# Altium footprint library MZ7XA_FUN20171227.PcbLib: 33 footprints (part 1 of 3)
Each footprint in its own frame and in the unit in brackets; x right, y up, seen from the top. Pads: shape width x height; smd on the part's side, far side on the other; paste and mask are expansions set on the pad; w line width, h text height; cw(c..) or ccw(c..) is an arc to the next point about the centre after c.
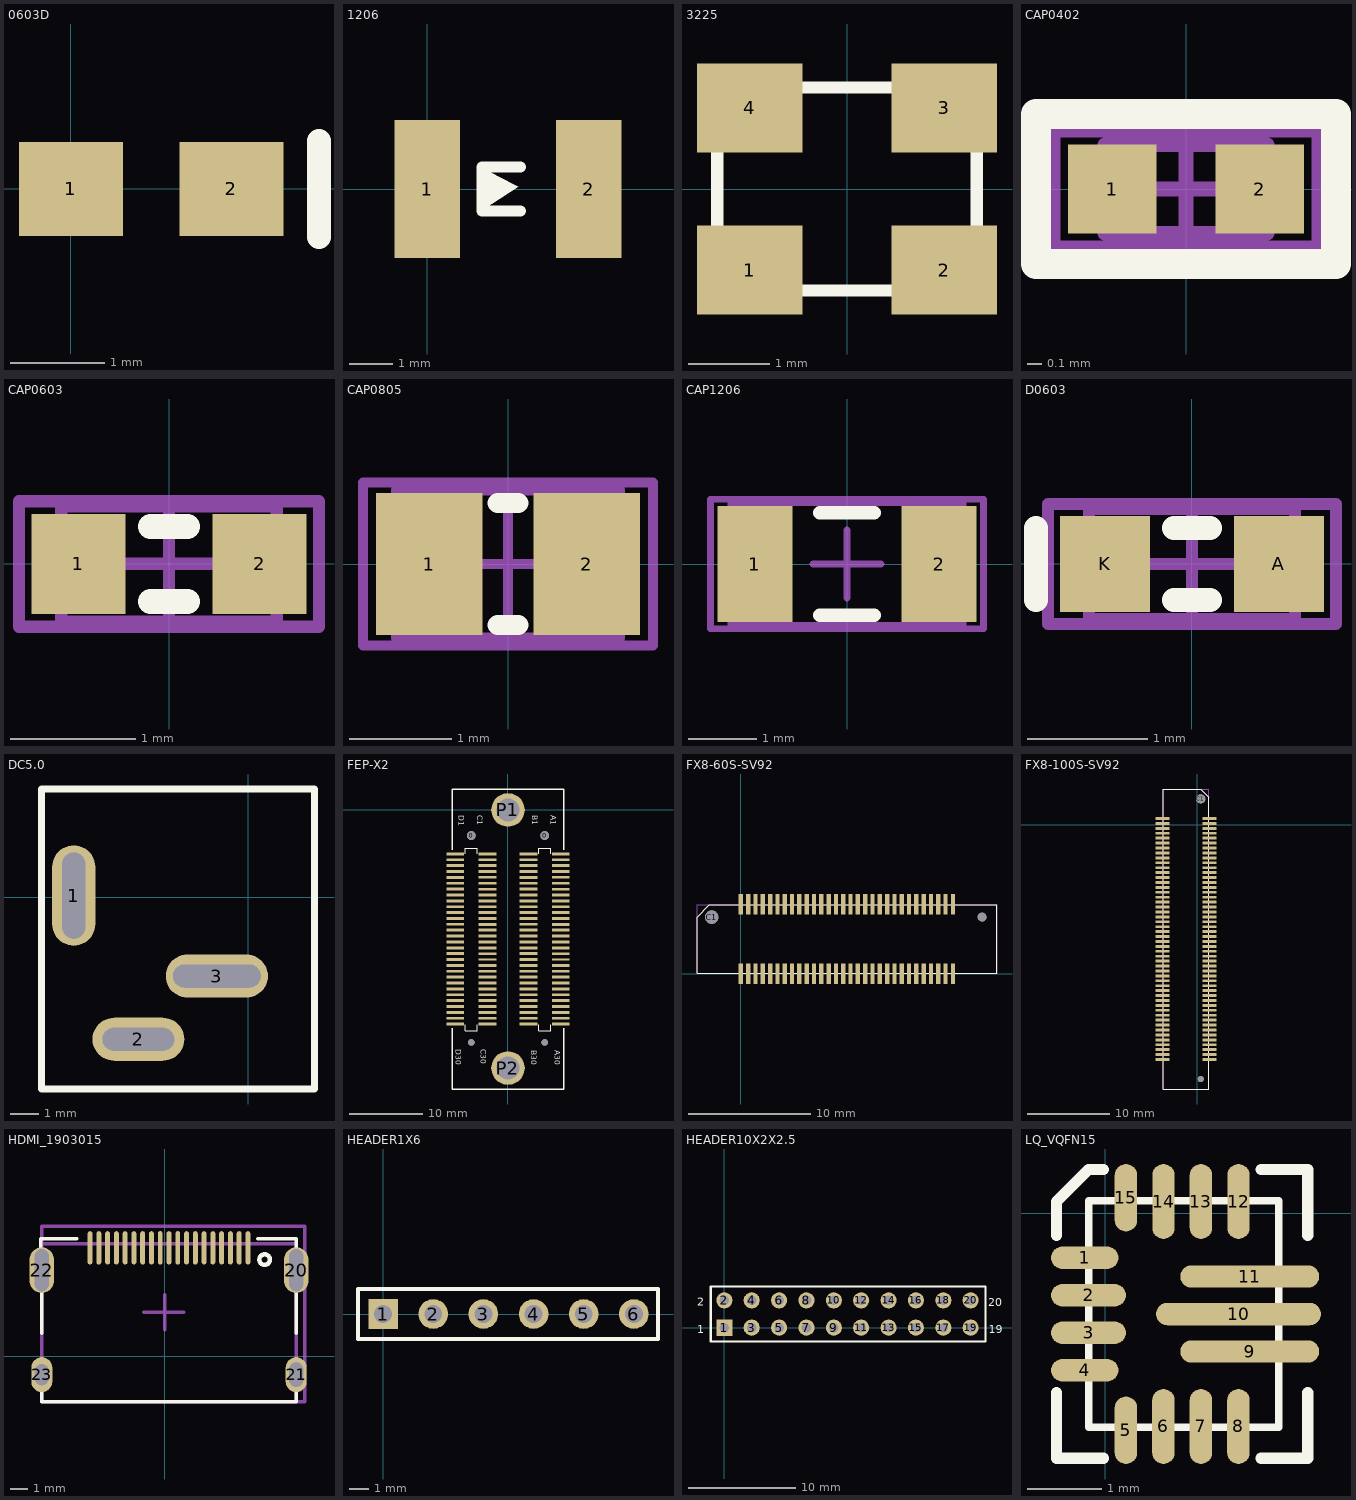
[diagram p0: the footprints below, top view; thin cyan lines are the x and y axes]

## 0603D [mm]
pads (2):
  rect 1.1x1 smd: 1(0,0) 2(1.7,0)
Top Overlay:
  lines w0.254: 2.628,-0.508 2.628,0.508
3D body: height 0.76, standoff 0, extent -0.635,-0.584 2.337,0.584

## 1206 [mil]
pads (2):
  rect 60x125.98 smd: 1(0,0) 2(147,0)
Top Overlay:
  region: 49,20 65,11 83,2 49,-20
  lines w10: 85,-20 50,-20 50,20 85,20
3D body: height 50, standoff 0, extent -23,-34 157,34
3D body: height 52, standoff 0, extent -34,-34 -23,34
3D body: height 52, standoff 0, extent 157,-34 168,34

## 3225 [mm]
pads (4):
  rect 1.3x1.1 smd: 1(-1.2,-1) 2(1.2,-1) 3(1.2,1) 4(-1.2,1)
Top Overlay:
  lines w0.15: -1.6,-1.25 -1.6,1.25 1.6,1.25 1.6,-1.25 -1.6,-1.25

## CAP0402 [mm]
pads (2):
  rect 0.6x0.6 smd: 1(-0.5,0) 2(0.5,0)
Top Overlay:
  lines w0.2: -1.016,-0.508 1.016,-0.508 1.016,0.508 -1.016,0.508 -1.016,-0.508
Mechanical 13:
  lines w0.1: -0.55,-0.3 0.55,-0.3 0.55,0.3 -0.55,0.3 -0.55,-0.3
Mechanical 15:
  lines w0.1: -0.3,0 0.3,0 ; 0,-0.3 0,0.3 ; -0.9,-0.4 0.9,-0.4 0.9,0.4 -0.9,0.4 -0.9,-0.4
3D body: height 0.6, standoff 0, extent -0.55,-0.3 0.55,0.3

## CAP0603 [mm]
pads (2):
  rect 0.75x0.8 smd: 1(-0.725,0) 2(0.725,0)
Top Overlay:
  lines w0.2: -0.15,-0.3 0.15,-0.3 ; -0.15,0.3 0.15,0.3
Mechanical 13:
  lines w0.1: -0.86,-0.46 -0.86,0.46 0.86,0.46 0.86,-0.46 -0.86,-0.46
Mechanical 15:
  lines w0.1: -0.46,0 0.46,0 ; 0,-0.46 0,0.46 ; -1.2,-0.5 -1.2,0.5 1.2,0.5 1.2,-0.5 -1.2,-0.5
3D body: height 0.92, standoff 0, extent -0.86,-0.46 0.86,0.46

## CAP0805 [mm]
pads (2):
  rect 1.05x1.4 smd: 1(-0.775,0) 2(0.775,0)
Top Overlay:
  lines w0.2: -0.1,-0.6 0.1,-0.6 ; -0.1,0.6 0.1,0.6
Mechanical 13:
  lines w0.1: -1.1,-0.725 1.1,-0.725 1.1,0.725 -1.1,0.725 -1.1,-0.725
Mechanical 15:
  lines w0.1: -0.5,0 0.5,0 ; 0,-0.5 0,0.5 ; -1.425,-0.8 1.425,-0.8 1.425,0.8 -1.425,0.8 -1.425,-0.8
3D body: height 1.45, standoff 0, extent -1.1,-0.725 1.1,0.725

## CAP1206 [mm]
pads (2):
  rect 1.1x1.7 smd: 1(-1.35,0) 2(1.35,0)
Top Overlay:
  lines w0.2: -0.4,-0.75 0.4,-0.75 ; -0.4,0.75 0.4,0.75
Mechanical 13:
  lines w0.1: -1.7,-0.9 -1.7,0.9 1.7,0.9 1.7,-0.9 -1.7,-0.9
Mechanical 15:
  lines w0.1: -0.5,0 0.5,0 ; 0,-0.5 0,0.5 ; -2,-0.95 -2,0.95 2,0.95 2,-0.95 -2,-0.95
3D body: height 1.3, standoff 0, extent -1.7,-0.9 1.7,0.9

## D0603 [mm]
pads (2):
  rect 0.75x0.8 smd: A(0.725,0) K(-0.725,0)
Top Overlay:
  lines w0.2: -0.15,-0.3 0.15,-0.3 ; -0.15,0.3 0.15,0.3
  lines w0.203: -1.3,-0.3 -1.3,0.3
Mechanical 13:
  lines w0.1: -0.86,-0.46 0.86,-0.46 0.86,0.46 -0.86,0.46 -0.86,-0.46
Mechanical 15:
  lines w0.1: -0.46,0 0.46,0 ; 0,-0.46 0,0.46 ; -1.2,-0.5 1.2,-0.5 1.2,0.5 -1.2,0.5 -1.2,-0.5
3D body: height 0.92, standoff 0, extent -0.86,-0.46 0.86,0.46

## DC5.0 [mm]
pads (3):
  oval 1.5x3.5 hole 0.8 slot 3 at 90 deg: 1(-6.071,0.051)
  oval 3.2x1.5 hole 0.8 slot 2.5 at 0 deg: 2(-3.821,-4.949)
  oval 3.556x1.5 hole 0.8 slot 3.048 at 0 deg: 3(-1.092,-2.749)
Top Overlay:
  lines w0.254: -7.193,-6.68 -7.193,3.759 2.306,3.759 2.306,-6.68 -7.193,-6.68

## FEP-X2 [mm]
pads (126):
  round 0.889 hole 0.889: 0(-5,-31.7) 0(5,-31.7)
  round 1.2 hole 1.2: 0(-5,-3.5) 0(5,-3.5)
  rect 2.4x0.4 smd: A1(7.2,-6) A2(7.2,-6.8) A3(7.2,-7.6) A4(7.2,-8.4) A8(7.2,-11.6) A9(7.2,-12.4) A10(7.2,-13.2) A11(7.2,-14) A12(7.2,-14.8) A13(7.2,-15.6) A14(7.2,-16.4) A15(7.2,-17.2) A16(7.2,-18) A17(7.2,-18.8) A20(7.2,-21.2) A21(7.2,-22) A22(7.2,-22.8) A23(7.2,-23.6) A24(7.2,-24.4) A25(7.2,-25.2) A26(7.2,-26) A27(7.2,-26.8) A28(7.2,-27.6) A29(7.2,-28.4) A30(7.2,-29.2) B1(2.8,-6) B2(2.8,-6.8) B3(2.8,-7.6) B4(2.8,-8.4) B5(2.8,-9.2) B6(2.8,-10) B7(2.8,-10.8) B8(2.8,-11.6) B9(2.8,-12.4) B10(2.8,-13.2) B11(2.8,-14) B12(2.8,-14.8) B14(2.8,-16.4) B15(2.8,-17.2) B16(2.8,-18) B17(2.8,-18.8) B18(2.8,-19.6) B19(2.8,-20.4) B20(2.8,-21.2) B21(2.8,-22) B22(2.8,-22.8) B23(2.8,-23.6) B24(2.8,-24.4) B25(2.8,-25.2) B26(2.8,-26) B27(2.8,-26.8) B28(2.8,-27.6) B29(2.8,-28.4) B30(2.8,-29.2) C1(-2.8,-6) C2(-2.8,-6.8) C3(-2.8,-7.6) C4(-2.8,-8.4) C8(-2.8,-11.6) C9(-2.8,-12.4) C10(-2.8,-13.2) C11(-2.8,-14) C12(-2.8,-14.8) C13(-2.8,-15.6) C14(-2.8,-16.4) C15(-2.8,-17.2) C16(-2.8,-18) C17(-2.8,-18.8) C20(-2.8,-21.2) C21(-2.8,-22) C22(-2.8,-22.8) C23(-2.8,-23.6) C24(-2.8,-24.4) C25(-2.8,-25.2) C26(-2.8,-26) C27(-2.8,-26.8) C28(-2.8,-27.6) C29(-2.8,-28.4) C30(-2.8,-29.2) D1(-7.2,-6) D2(-7.2,-6.8) D3(-7.2,-7.6) D4(-7.2,-8.4) D5(-7.2,-9.2) D6(-7.2,-10) D7(-7.2,-10.8) D8(-7.2,-11.6) D9(-7.2,-12.4) D10(-7.2,-13.2) D11(-7.2,-14) D12(-7.2,-14.8) D14(-7.2,-16.4) D15(-7.2,-17.2) D16(-7.2,-18) D17(-7.2,-18.8) D18(-7.2,-19.6) D19(-7.2,-20.4) D20(-7.2,-21.2) D21(-7.2,-22) D22(-7.2,-22.8) D23(-7.2,-23.6) D24(-7.2,-24.4) D25(-7.2,-25.2) D26(-7.2,-26) D27(-7.2,-26.8) D28(-7.2,-27.6) D29(-7.2,-28.4) D30(-7.2,-29.2)
  rect 2.4x0.33 smd: A5(7.2,-9.2) A6(7.2,-10) A7(7.2,-10.8) A18(7.2,-19.6) A19(7.2,-20.4) B13(2.8,-15.6) C5(-2.8,-9.2) C6(-2.8,-10) C7(-2.8,-10.8) C18(-2.8,-19.6) C19(-2.8,-20.4) D13(-7.2,-15.6)
  round 4.57 hole 3.1: P1(0,0) P2(0,-35.2)
Top Overlay:
  lines w0.152: -5.8,-29.3 -5.8,-30.1 -4.2,-30.1 ; -5.8,-6 -5.8,-5.2 -4.2,-5.2 -4.2,-6 ; 4.2,-6 4.2,-5.2 5.8,-5.2 5.8,-6 ; 5.8,-29.3 5.8,-30.1 4.2,-30.1 ; -4.2,-30.1 -4.2,-29.3 -4.2,-30.1 ; 4.2,-30.1 4.2,-29.3 4.2,-30.1
  lines w0.203: -7.62,-29.795 -7.62,-38.05 7.62,-38.05 7.62,-29.795 ; -7.62,-5.405 -7.62,2.85 7.62,2.85 7.62,-5.405
  text "C30" at -3.683,-32.639 h0.76
  text "D30" at -7.112,-32.639 h0.76
  text "C1" at -4.191,-0.762 h0.76
  text "D1" at -6.731,-0.762 h0.76
  text "A30" at 6.35,-32.766 h0.76
  text "B30" at 3.175,-32.766 h0.76
  text "A1" at 5.842,-0.762 h0.76
  text "B1" at 3.302,-0.762 h0.76

## FX8-60S-SV92 [mm]
pads (62):
  rect 0.35x1.7 smd: A1(0,0) A2(0.6,0) A3(1.2,0) A4(1.8,0) A5(2.4,0) A6(3,0) A7(3.6,0) A8(4.2,0) A9(4.8,0) A10(5.4,0) A11(6,0) A12(6.6,0) A13(7.2,0) A14(7.8,0) A15(8.4,0) A16(9,0) A17(9.6,0) A18(10.2,0) A19(10.8,0) A20(11.4,0) A21(12,0) A22(12.6,0) A23(13.2,0) A24(13.8,0) A25(14.4,0) A26(15,0) A27(15.6,0) A28(16.2,0) A29(16.8,0) A30(17.4,0) B1(0,5.7) B2(0.6,5.7) B3(1.2,5.7) B4(1.8,5.7) B5(2.4,5.7) B6(3,5.7) B7(3.6,5.7) B8(4.2,5.7) B9(4.8,5.7) B10(5.4,5.7) B11(6,5.7) B12(6.6,5.7) B13(7.2,5.7) B14(7.8,5.7) B15(8.4,5.7) B16(9,5.7) B17(9.6,5.7) B18(10.2,5.7) B19(10.8,5.7) B20(11.4,5.7) B21(12,5.7) B22(12.6,5.7) B23(13.2,5.7) B24(13.8,5.7) B25(14.4,5.7) B26(15,5.7) B27(15.6,5.7) B28(16.2,5.7) B29(16.8,5.7) B30(17.4,5.7)
  round 1.092 hole 1.1: C1(-2.4,4.65)
  round 0.711 hole 0.75: C2(19.8,4.65)
Top Overlay:
  lines w0.1: 21,0.05 -3.6,0.05 -3.6,4.65 -2.6,5.65 21,5.65 ; 21.009,0.05 21.009,5.65
Mechanical 7:
  lines w0.025: -3.6,0.05 -3.6,5.65 21.016,5.65 21.016,0.05 -3.6,0.05
3D body: height 3.81, standoff 0, extent -3.663,-0.866 21,6.634

## FX8-100S-SV92 [mm]
pads (102):
  rect 1.7x0.35 smd: A1(-4.221,0.782) A2(-4.221,0.182) A3(-4.221,-0.418) A4(-4.221,-1.018) A5(-4.221,-1.618) A6(-4.221,-2.218) A7(-4.221,-2.818) A8(-4.221,-3.418) A9(-4.221,-4.018) A10(-4.221,-4.618) A11(-4.221,-5.218) A12(-4.221,-5.818) A13(-4.221,-6.418) A14(-4.221,-7.018) A15(-4.221,-7.618) A16(-4.221,-8.218) A17(-4.221,-8.818) A18(-4.221,-9.418) A19(-4.221,-10.018) A20(-4.221,-10.618) A21(-4.221,-11.218) A22(-4.221,-11.818) A23(-4.221,-12.418) A24(-4.221,-13.018) A25(-4.221,-13.618) A26(-4.221,-14.218) A27(-4.221,-14.818) A28(-4.221,-15.418) A29(-4.221,-16.018) A30(-4.221,-16.618) A31(-4.221,-17.218) A32(-4.221,-17.818) A33(-4.221,-18.418) A34(-4.221,-19.018) A35(-4.221,-19.618) A36(-4.221,-20.218) A37(-4.221,-20.818) A38(-4.221,-21.418) A39(-4.221,-22.018) A40(-4.221,-22.618) A41(-4.221,-23.218) A42(-4.221,-23.818) A43(-4.221,-24.418) A44(-4.221,-25.018) A45(-4.221,-25.618) A46(-4.221,-26.218) A47(-4.221,-26.818) A48(-4.221,-27.418) A49(-4.221,-28.018) A50(-4.221,-28.618) B1(1.479,0.782) B2(1.479,0.182) B3(1.479,-0.418) B4(1.479,-1.018) B5(1.479,-1.618) B6(1.479,-2.218) B7(1.479,-2.818) B8(1.479,-3.418) B9(1.479,-4.018) B10(1.479,-4.618) B11(1.479,-5.218) B12(1.479,-5.818) B13(1.479,-6.418) B14(1.479,-7.018) B15(1.479,-7.618) B16(1.479,-8.218) B17(1.479,-8.818) B18(1.479,-9.418) B19(1.479,-10.018) B20(1.479,-10.618) B21(1.479,-11.218) B22(1.479,-11.818) B23(1.479,-12.418) B24(1.479,-13.018) B25(1.479,-13.618) B26(1.479,-14.218) B27(1.479,-14.818) B28(1.479,-15.418) B29(1.479,-16.018) B30(1.479,-16.618) B31(1.479,-17.218) B32(1.479,-17.818) B33(1.479,-18.418) B34(1.479,-19.018) B35(1.479,-19.618) B36(1.479,-20.218) B37(1.479,-20.818) B38(1.479,-21.418) B39(1.479,-22.018) B40(1.479,-22.618) B41(1.479,-23.218) B42(1.479,-23.818) B43(1.479,-24.418) B44(1.479,-25.018) B45(1.479,-25.618) B46(1.479,-26.218) B47(1.479,-26.818) B48(1.479,-27.418) B49(1.479,-28.018) B50(1.479,-28.618)
  round 1.092 hole 1.1: C1(0.429,3.182)
  round 0.711 hole 0.75: C2(0.429,-31.018)
Top Overlay:
  lines w0.1: -4.171,-32.218 -4.171,4.382 0.429,4.382 1.429,3.382 1.429,-32.218 -4.171,-32.218
Mechanical 6:
  text "C1" at -0.091,3.182 h0.76
Mechanical 7:
  lines w0.025: -4.171,-32.218 -4.171,4.382 1.429,4.382 1.429,-32.218 -4.171,-32.218
3D body: height 3.81, standoff 0, extent -5.121,-32.318 2.379,4.482

## HDMI_1903015 [mm]
pads (23):
  oval 0.279x1.9 smd: 1(4.75,6.17) 2(4.25,6.17) 3(3.75,6.17) 4(3.25,6.17) 5(2.75,6.17) 6(2.25,6.17) 7(1.75,6.17) 8(1.25,6.17) 9(0.75,6.17) 10(0.25,6.17) 11(-0.25,6.17) 12(-0.75,6.17) 13(-1.25,6.17) 14(-1.75,6.17) 15(-2.25,6.17) 16(-2.75,6.17) 17(-3.25,6.17) 18(-3.75,6.17) 19(-4.25,6.17)
  oval 1.4x2.6 hole 0.8 slot 2.4 at 90 deg: 20(7.5,4.9) 22(-7,4.9)
  oval 1.2x2 hole 0.8 slot 1.4 at 90 deg: 21(7.5,-1.06)
  oval 1.2x2 hole 0.8 slot 1.2 at 90 deg: 23(-7,-1.06)
Top Overlay:
  circle w0.254: c5.7,5.5 r0.3
  lines w0.2: -7.065,6.7 -5,6.7 ; -5,6.7 -5,6.7
  lines w0.203: -7.065,6.1 -7.065,6.7 ; -7.014,-1.4 -7.014,-2.6 7.5,-2.6 7.5,-1.4 ; -7.014,1.303 -7.014,4.203 ; 5.3,6.7 7.5,6.7 7.5,6.1 ; 7.5,1.3 7.5,4.2
Mechanical 13:
  lines w0.203: -7.014,-2.6 7.5,-2.6 7.5,6.4 -7.014,6.4 -7.014,-2.6
Mechanical 15:
  lines w0.203: -1.2,2.5 1.1,2.5 ; 0,1.5 0,3.5 ; -7.014,-2.6 8,-2.6 8,7.4 -7.014,7.4 -7.014,-2.6
3D body: height 7, standoff 0.1, extent -7.014,-2.6 7.5,6.4

## HEADER1X6 [mm]
pads (6):
  rect 1.5x1.5 hole 0.9: 1(0,0)
  round 1.5 hole 0.9: 2(2.54,0) 3(5.08,0) 4(7.62,0) 5(10.16,0) 6(12.7,0)
Top Overlay:
  lines w0.2: -1.27,-1.27 -1.27,1.27 13.919,1.27 13.919,-1.27 -1.27,-1.27

## HEADER10X2X2.5 [mm]
pads (20):
  rect 1.5x1.5 hole 0.9: 1(0,0)
  round 1.5 hole 0.9: 2(0,2.54) 3(2.54,0) 4(2.54,2.54) 5(5.08,0) 6(5.08,2.54) 7(7.62,0) 8(7.62,2.54) 9(10.16,0) 10(10.16,2.54) 11(12.7,0) 12(12.7,2.54) 13(15.24,0) 14(15.24,2.54) 15(17.78,0) 16(17.78,2.54) 17(20.32,0) 18(20.32,2.54) 19(22.86,0) 20(22.86,2.54)
Top Overlay:
  lines w0.2: -1.27,-1.27 -1.27,3.81 24.25,3.81 24.25,-1.27 -1.27,-1.27
  text "19" at 24.542,-0.508 h0.76
  text "20" at 24.5,2 h0.76
  text "2" at -2.54,2.032 h0.76
  text "1" at -2.54,-0.508 h0.76

## LQ_VQFN15 [mm]
pads (15):
  oval 0.9x0.3 smd: 1(-0.272,-0.596) 4(-0.272,-2.096)
  oval 1x0.3 smd: 2(-0.222,-1.096) 3(-0.222,-1.596)
  oval 0.3x0.9 smd: 5(0.278,-2.896) 15(0.278,0.204)
  oval 0.3x1 smd: 6(0.778,-2.846) 7(1.278,-2.846) 8(1.778,-2.846) 12(1.778,0.154) 13(1.278,0.154) 14(0.778,0.154)
  oval 1.85x0.3 smd: 9(1.928,-1.846) 11(1.928,-0.846)
  oval 2.2x0.3 smd: 10(1.778,-1.346)
Top Overlay:
  lines w0.1: -0.222,-2.857 -0.222,-0.596 -0.222,0.166 2.318,0.166 2.318,-2.857 -0.222,-2.857
  lines w0.15: -0.647,-2.396 -0.647,-3.271 -0.022,-3.271 ; -0.647,-0.296 -0.647,0.154 -0.222,0.579 -0.022,0.579 ; 2.078,-3.271 2.703,-3.271 2.703,-2.396 ; 2.078,0.579 2.703,0.579 2.703,-0.296